# Altium footprint library COMPONENTES.PcbLib: 191 footprints (part 8 of 12)
Each footprint in its own frame and in the unit in brackets; x right, y up, seen from the top. Pads: shape width x height; smd on the part's side, far side on the other; paste and mask are expansions set on the pad; w line width, h text height; cw(c..) or ccw(c..) is an arc to the next point about the centre after c.
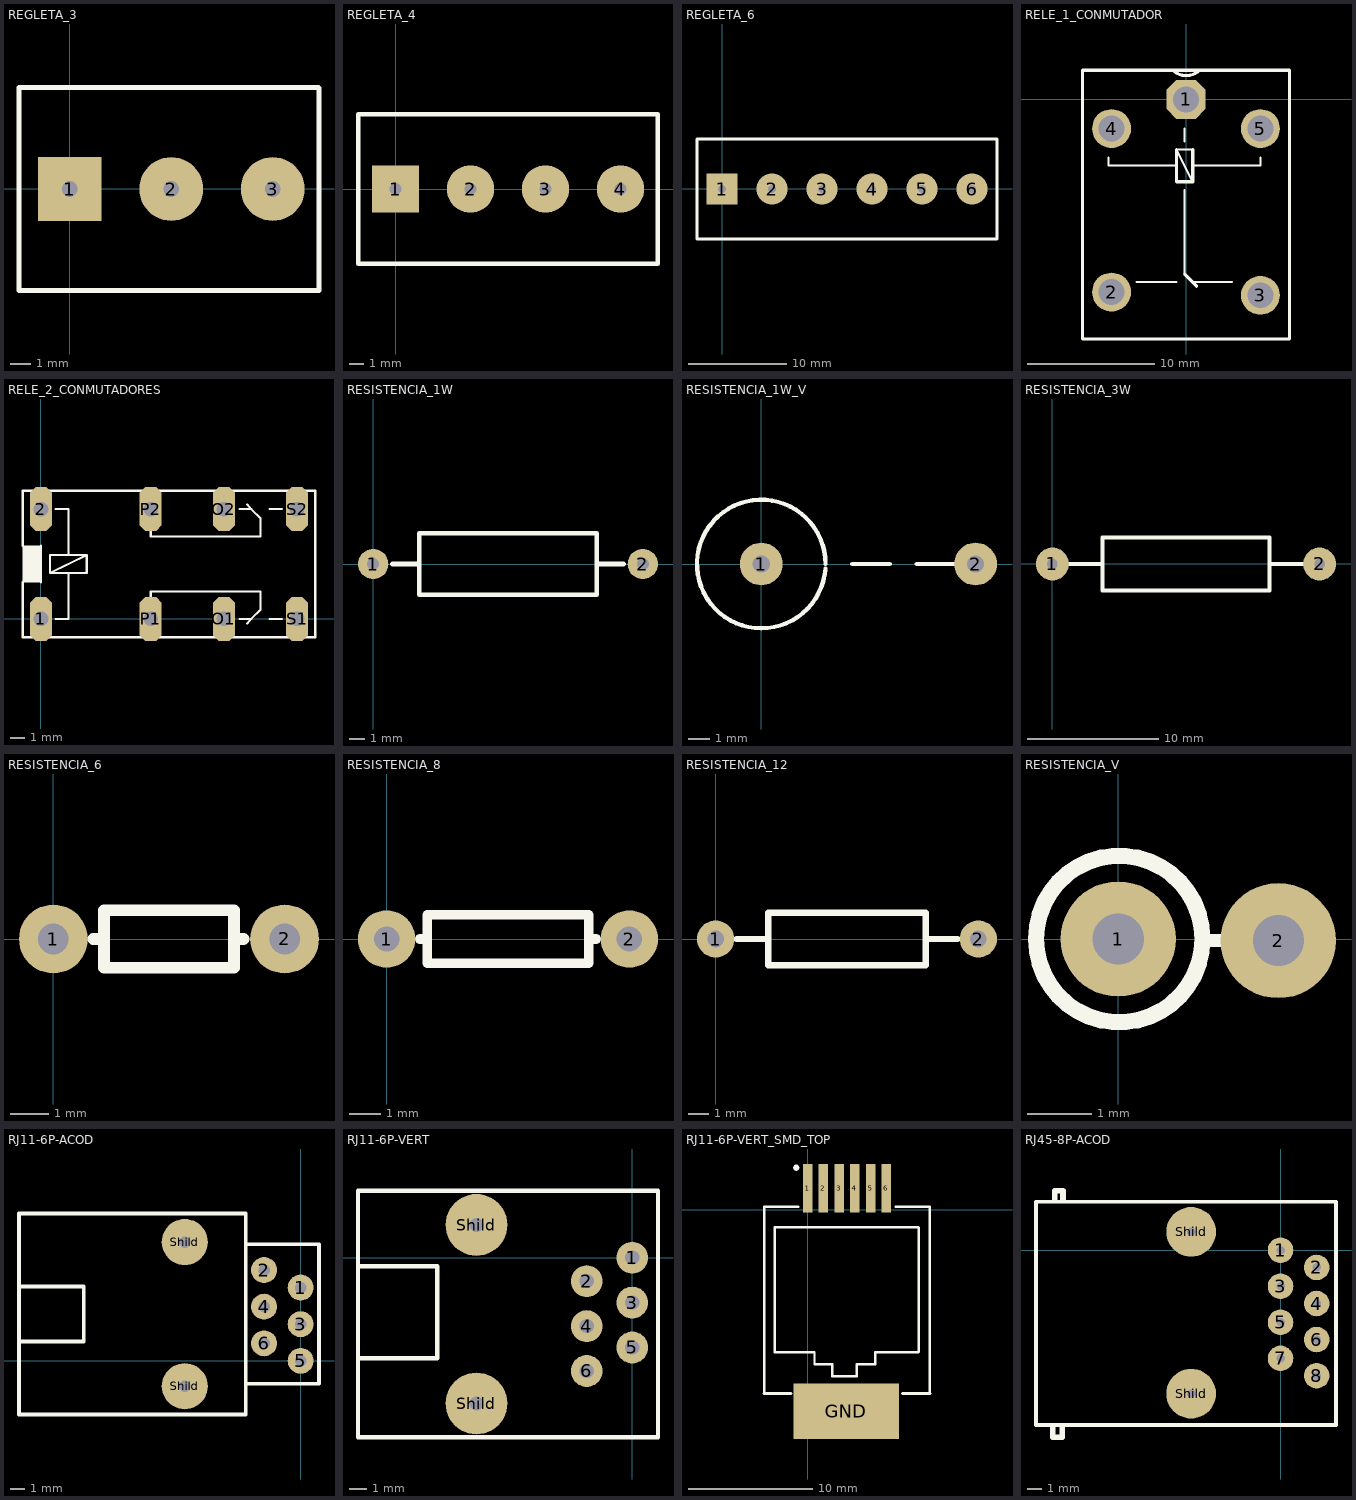
[diagram p7: the footprints below, top view; thin cyan lines are the x and y axes]

## REGLETA_3 [mm]
pads (3):
  rect 3.2x3.2 hole 0.8: 1(0,-0.025)
  round 3.2 hole 0.8: 2(5.08,-0.025) 3(10.16,-0.025)
Top Overlay:
  lines w0.254: 12.45,5.055 -2.54,5.055 -2.54,-5.105 12.475,-5.105 12.475,5.03

## REGLETA_4 [mm]
height 2.65
pads (4):
  rect 3.2x3.2 hole 0.8: 1(0,0)
  round 3.2 hole 0.8: 2(5.08,0) 3(10.16,0) 4(15.24,0)
Top Overlay:
  lines w0.305: -2.54,-5.08 -2.54,5.08 17.78,5.08 17.78,-5.08 -2.54,-5.08

## REGLETA_6 [mm]
pads (6):
  rect 3.2x3.2 hole 0.8: 1(0,-0.025)
  round 3.2 hole 0.8: 2(5.08,-0.025) 3(10.16,-0.025) 4(15.24,-0.025) 5(20.32,-0.025) 6(25.4,-0.025)
Top Overlay:
  lines w0.305: 7.62,-5.105 27.94,-5.105 27.94,5.055 7.62,5.055 ; 17.78,-5.105 -2.54,-5.105 -2.54,5.055 17.78,5.055

## RELE_1_CONMUTADOR [mil]
pads (5):
  oct 120x120 hole 80: 1(-0.98,0)
  round 120 hole 80: 2(-230.98,-595) 3(229.02,-605) 4(-230.98,-90) 5(229.02,-90)
Top Overlay:
  lines w6: -240.48,-179.41 -240.48,-204.41 -30.48,-204.41 ; -153.48,-564.41 -30.48,-564.41 ; -5.48,-539.41 -5.48,-279.41 ; -5.48,-129.41 -5.48,-89.41 ; 19.52,-564.41 141.52,-564.41 ; 19.52,-254.41 -30.48,-154.41 19.52,-154.41 ; 19.52,-204.41 229.52,-204.41 229.52,-179.41
  lines w10: -40.35,90 ccw(c-0.35,130) 39.65,90 ; -30.48,-154.41 -30.48,-204.41 -30.48,-254.41 19.52,-254.41 19.52,-204.41 19.52,-154.41 ; -5.48,-539.41 19.52,-564.41 31.52,-577.41 ; -320.98,-740 319.02,-740 319.02,90 -320.98,90 -320.98,-740

## RELE_2_CONMUTADORES [mil]
height 78.74
pads (8):
  oct 60x120 hole 40: 1(0,0) 2(0,300) O1(500,0) O2(500,300) P1(300,0) P2(300,300) S1(700,0) S2(700,300)
Top Overlay:
  rectangle: -50,100 0,200
  lines w6: -50,100 -50,-50 750,-50 750,350 -50,350 -50,200 ; 0,100 0,200 ; 40,0 75,0 75,125 ; 40,300 75,300 75,175 ; 300,40 300,75 600,75 600,25 575,0 ; 300,260 300,225 600,225 600,275 575,300 ; 543,0 575,0 ; 543,300 575,300 ; 563,-13 575,0 ; 563,313 575,300 ; 625,0 658,0 ; 625,300 658,300 ; 25,125 125,175 ; 25,125 75,125 ; 25,125 25,175 75,175 ; 75,125 125,125 125,175 ; 75,175 125,175

## RESISTENCIA_1W [mm]
height 2.65
pads (2):
  round 2 hole 0.8: 1(0,0) 2(17.78,0)
Top Overlay:
  lines w0.305: 1.27,0 3.048,0 ; 14.732,0 16.51,0 ; 3.048,-2.032 3.048,2.032 14.732,2.032 14.732,-2.032 3.048,-2.032

## RESISTENCIA_1W_V [mm]
height 2.65
pads (2):
  round 2 hole 0.8: 1(0,0) 2(10,0)
Top Overlay:
  lines w0.2: 2.993,-0.209 cw(c0,0) 3,0 ; 4.25,0 6,0 ; 7.25,0 9,0

## RESISTENCIA_3W [mm]
height 2.65
pads (2):
  round 2.5 hole 0.8: 1(0,0) 2(20.32,0)
Top Overlay:
  lines w0.305: 1.27,0 3.81,0 ; 16.51,0 19.05,0 ; 3.81,-2.032 16.51,-2.032 16.51,2.032 3.81,2.032 3.81,-2.032

## RESISTENCIA_6 [mm]
height 2.65
pads (2):
  round 1.8 hole 0.8: 1(0,0) 2(6.05,0.001)
Top Overlay:
  lines w0.305: 1.041,0 1.27,0 ; 4.975,0.001 4.725,0 ; 4.725,0 4.725,-0.749 1.325,-0.749 1.325,0.751 4.725,0.751 4.725,0

## RESISTENCIA_8 [mm]
height 2.65
pads (2):
  round 1.8 hole 0.8: 1(0,0) 2(7.62,0)
Top Overlay:
  lines w0.305: 1.041,0 1.27,0 ; 6.579,0 6.35,0 ; 6.35,0 6.35,0.762 1.27,0.762 1.27,-0.762 6.35,-0.762 6.35,0

## RESISTENCIA_12 [mm]
height 2.65
pads (2):
  round 1.8 hole 0.8: 1(0,0) 2(12.7,0)
Top Overlay:
  lines w0.305: 1.016,0 2.54,0 ; 10.16,0 11.684,0 ; 2.54,-1.27 10.16,-1.27 10.16,1.27 2.54,1.27 2.54,-1.27

## RESISTENCIA_V [mm]
height 2.65
pads (2):
  round 1.8 hole 0.8: 1(0,0) 2(2.5,-0.025)
Top Overlay:
  circle w0.254: c0.015,0 r1.3
  lines w0.2: 1.4,-0.025 1.65,-0.025 ; 1.9,-0.025 2.1,-0.025

## RJ11-6P-ACOD [mm]
height 2.65
pads (8):
  round 1.8 hole 0.8: 1(0,5.08) 2(-2.54,6.296) 3(0,2.54) 4(-2.54,3.756) 5(0,0) 6(-2.54,1.216)
  round 3.2 hole 0.8: Shild(-8.037,-1.762) Shild(-8.037,8.238)
Top Overlay:
  lines w0.254: -19.49,1.343 -15.045,1.343 -15.045,5.153 -19.49,5.153 ; -3.81,-1.578 1.27,-1.578 ; -3.81,8.074 1.27,8.074 1.27,-1.553 ; -19.537,-3.717 -3.81,-3.717 -3.81,10.213 -19.537,10.213 -19.537,-3.717

## RJ11-6P-VERT [mm]
height 2.65
pads (8):
  round 1.8 hole 0.8: 1(0,0) 2(-2.579,-1.33) 3(0,-2.54) 4(-2.579,-3.87) 5(0,-5.08) 6(-2.579,-6.41)
  round 3.5 hole 0.8: Shild(-8.812,1.853) Shild(-8.812,-8.247)
Top Overlay:
  lines w0.254: -15.465,-5.692 -11.02,-5.692 -11.02,-0.482 -15.465,-0.482 ; -15.512,-10.152 -15.512,3.778 1.452,3.778 1.452,-10.152 -15.512,-10.152

## RJ11-6P-VERT_SMD_TOP [mm]
pads (7):
  rect 0.76x3.9 smd: 1(-0.025,1.725) 2(1.245,1.725) 3(2.515,1.725) 4(3.785,1.725) 5(5.055,1.725) 6(6.325,1.725)
  rect 8.5x4.5 smd: GND(3.1,-16.3)
Top Overlay:
  circle w0.25: c-0.95,3.375 r0.125
  lines w0.2: -3.55,-14.86 -3.55,-11.115 ; -3.55,-12.025 -3.55,-8.3 ; -3.55,-8.685 -3.55,0.24 -0.805,0.24 ; 7.105,0.24 9.85,0.24 9.85,-8.685 9.85,-11.575 ; 9.85,-14.86 9.85,-11.115 ; 8.9,-11.525 5.45,-11.525 5.45,-12.5 3.95,-12.5 3.925,-12.525 3.925,-13.45 1.975,-13.45 1.975,-12.5 0.525,-12.5 0.525,-11.55 0.5,-11.525 -2.675,-11.525 -2.675,-1.45 8.9,-1.45 8.925,-1.475 8.925,-11.5 8.9,-11.525 ; 8.9,-11.525 8.9,-11.525
  lines w0.254: -3.55,-14.86 -1.385,-14.86 ; 7.635,-14.86 9.85,-14.86

## RJ45-8P-ACOD [mm]
height 2.65
pads (10):
  round 1.8 hole 0.6: 1(0,0) 2(2.54,-1.216) 3(0,-2.54) 4(2.54,-3.756) 5(0,-5.08) 6(2.54,-6.296) 7(0,-7.62) 8(2.54,-8.836)
  round 3.5 hole 0.6: Shild(-6.297,1.292) Shild(-6.297,-10.108)
Top Overlay:
  lines w0.254: -17.222,-12.313 3.903,-12.313 3.903,3.417 -17.222,3.417 -17.222,-12.313
  lines w0.4: -16.047,-12.383 -16.047,-13.183 -15.372,-13.183 -15.372,-12.408 ; -15.897,3.492 -15.897,4.192 -15.322,4.192 -15.322,3.492